# EAGLE library part WE-RJ45_7499110124 (library WE-RJ45_LAN)
WE-RJ45 LAN Transformer Characteristics RJ45 Connector with integrated transformer / common mode choke Power over Ethernet up to 50 Watt and speeds up to 10 Gbit/s Available in SMD, THT and THT with USB Compliant with standards: IEEE 802.3u, IEEE 802.3ab, IEEE 802.3af, IEEE 802.3at, IEEE 802.3an and upcoming IEE 802.3bt Applications Suitable for industrial temperatures from –40 °C up to +85 °C Compatible to Industrial Ethernet systems like EtherCAT or Profinet Compliant with most IC’s for Ethernet applications such as Microchip, Texas Instruments, Broadcom, Linear Technology Hubs, Routers, Switches, IP cameras, IoT applications Details see: www.we-online.com/components/products/WE-LAN-RJ45 Updated by Ella Wu 2019-08-05 2019 (C) Würth Elektronik
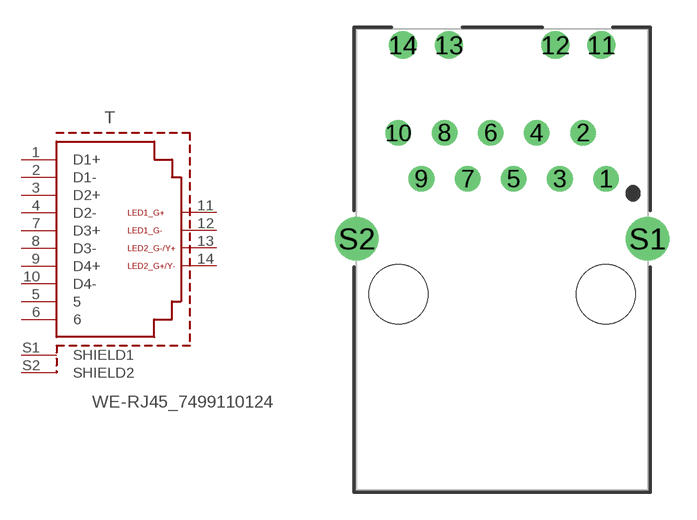
[diagram p34: symbol with the pads of 7499110124; footprint 7499110124]

Designator prefix T

## WE-RJ45_7499110124 (DATA-RATE: 1000BASE-T; DATASHEET: https://www.we-online.com/redexpert/spec/7499110124?ae; IMPROVED-CMRR: No; LED: green-yellow/green; MOUNT: THT; OPERATING-TEMPERATURE: -40 °C up to +85 °C; PART-NUMBER: 7499110124; PHY-CHIP-MODE: current; POE: non-PoE; PORTS: 1x1; SHIELD-TABS: No; TAB: Up; USB: No; VALUE: 7499110124)  [7499110124]
1  D1+  pas
2  D1-  pas
3  D2+  pas
4  D2-  pas
5  5  pas
6  6  pas
7  D3+  pas
8  D3-  pas
9  D4+  pas
10  D4-  pas
11  LED1_G+  pas
12  LED1_G-  pas
13  LED2_G-/Y+  pas
14  LED2_G+/Y-  pas
S1  SHIELD1  pas
S2  SHIELD2  pas

## Footprint 7499110124 (pad centres in mm)
WE-RJ45 LAN Transformer 1000BASE-T, Ports:1x1, Tab:Up
drill 0.9: 1 5.715,6.35; 2 4.445,8.89; 3 3.175,6.35; 4 1.905,8.89; 5 0.635,6.35; 6 -0.635,8.89; 7 -1.905,6.35; 8 -3.175,8.89; 9 -4.445,6.35; 10 -5.715,8.89
drill 1.02: 11 5.465,13.72; 12 2.925,13.72; 13 -2.925,13.72; 14 -5.465,13.72
drill 1.6: S1 8,3.05; S2 -8,3.05
hole 3.25 at -5.715,0
hole 3.25 at 5.715,0